# Altium schematic symbol library Integrated Half-Bridge with driver (Vishay).SchLib: 1 symbol
Pins are listed as number, name and electrical type; pins without a type are passive.

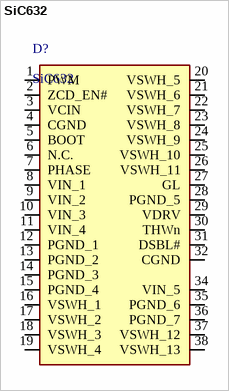
[diagram p0: symbol SiC632]

## SiC632
designator D?
Integrated half bridge; Input voltage: -0.3 to +28V; Drive supply voltage: -0.3 to +7V; Tj: 150°C; Parameter 1: *
footprint SiC632
pins: 1 PWM, 2 ZCD_EN#, 3 VCIN, 4 CGND, 5 BOOT, 6 N.C., 7 PHASE, 8 VIN_1, 9 VIN_2, 10 VIN_3, 11 VIN_4, 12 PGND_1, 13 PGND_2, 14 PGND_3, 15 PGND_4, 16 VSWH_1, 17 VSWH_2, 18 VSWH_3, 19 VSWH_4, 20 VSWH_5, 21 VSWH_6, 22 VSWH_7, 23 VSWH_8, 24 VSWH_9, 25 VSWH_10, 26 VSWH_11, 27 GL, 28 PGND_5, 29 VDRV, 30 THWn, 31 DSBL#, 32 CGND, 34 VIN_5, 35 PGND_6, 36 PGND_7, 37 VSWH_12, 38 VSWH_13